# Altium footprint library IR.PcbLib: 7 footprints
Each footprint in its own frame and in the unit in brackets; x right, y up, seen from the top. Pads: shape width x height; smd on the part's side, far side on the other; paste and mask are expansions set on the pad; w line width, h text height; cw(c..) or ccw(c..) is an arc to the next point about the centre after c.
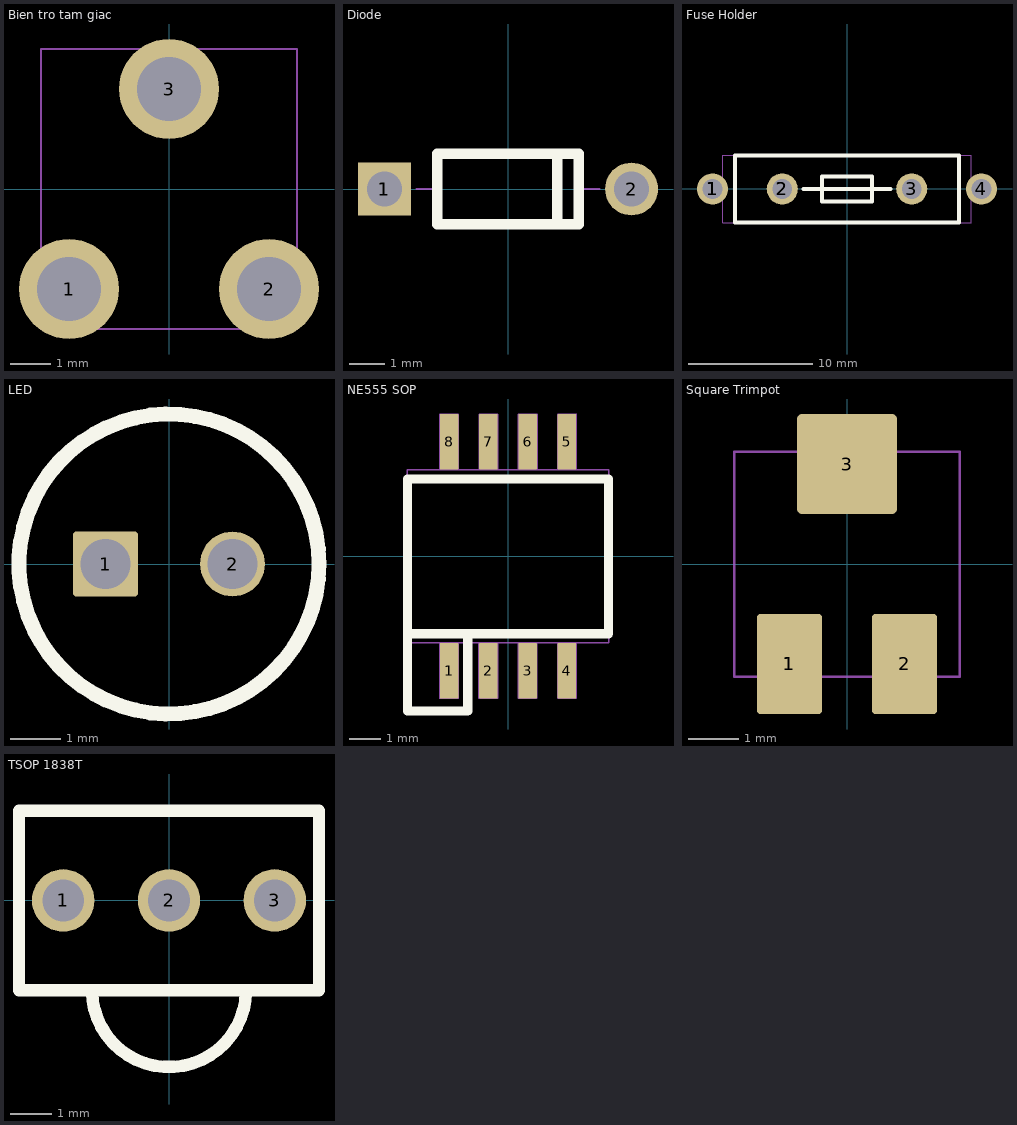
[diagram p0: the footprints below, top view; thin cyan lines are the x and y axes]

## Bien tro tam giac [mm]
height 8
pads (3):
  round 2.5 hole 1.6 mask+0.1: 1(-2.5,-2.5) 2(2.5,-2.5) 3(0,2.5)
Top Hinh chieu bang:
  lines w0.05: -3.2,-3.5 3.2,-3.5 3.2,3.5 -3.2,3.5 -3.2,-3.5

## Diode [mm] "1N4448"
height 2
pads (3):
  rect 1.5x1.5 hole 1 mask+0.1: 1(-3.5,0) 1(-3.5,0)
  round 1.5 hole 1 mask+0.1: 2(3.5,0)
Top Overlay:
  lines w0.3: 1.4,-1 1.4,1 ; -2,-1 -2,1 2,1 2,-1 -2,-1
Top Hinh chieu bang:
  lines w0.05: -2.6,0 -2,0 ; 1.4,-1 1.4,1 ; 2,0 2.6,0 ; -2,-1 2,-1 2,1 -2,1 -2,-1

## Fuse Holder [mm] "5x20mm"
height 10
pads (10):
  round 2.5 hole 1.6 mask+0.2: 1(-10.8,0) 1(-10.8,0) 1(-10.8,0) 1(-10.8,0) 1(-10.8,0) 1(-10.8,0) 2(-5.2,0) 2(-5.2,0) 3(5.2,0) 4(10.8,0)
Top Overlay:
  lines w0.3: -3.5,0 3.5,0 ; -9,-2.7 -9,-1.35 -9,-0.675 -9,0.675 -9,1.35 -9,2.7 9,2.7 9,1.35 9,-1.35 9,-2.7 -9,-2.7 ; -2,-1 2,-1 2,1 -2,1 -2,-0.675 -2,-1
Top Hinh chieu bang:
  lines w0.05: -10,-2.7 10,-2.7 10,2.7 -10,2.7 -10,-2.7

## LED [mm] "LED"
height 11.5
pads (2):
  rrect10% 1.3x1.3 hole 1 mask+0.1: 1(-1.27,0)
  round 1.3 hole 1 mask+0.1: 2(1.27,0)
Top Overlay:
  circle w0.3: c0,0 r3
Top Hinh chieu bang:
  circle w0.05: c0,0 r2.915

## NE555 SOP [mm] "PS G8"
height 2
pads (9):
  rrect10% 0.6x1.8 smd mask+0.07: 1(-1.905,-3.7) 1(-1.905,-3.7) 2(-0.635,-3.7) 3(0.635,-3.7) 4(1.905,-3.7) 5(1.905,3.7) 6(0.635,3.7) 7(-0.635,3.7) 8(-1.905,3.7)
Top Layer:
  region: -0.635,-5.097
  region: -0.635,-3.065
Top Overlay:
  lines w0.3: -1.3,-2.5 -1.3,-5 -3.25,-5 -3.25,-2.5 ; -3.25,-2.5 3.25,-2.5 3.25,2.5 -3.25,2.5 -3.25,-2.5
  text "." at -2.348,-1.705 h1.52
Top Hinh chieu bang:
  lines w0.05: -2.207,-2.802 -2.207,-4.59 -2.202,-4.595 -1.618,-4.595 -1.608,-4.585 -1.608,-2.805 ; -2.202,2.805 -2.202,4.585 ; -2.192,4.595 -1.608,4.595 ; -1.603,2.802 -1.603,4.59 ; -0.937,-4.59 -0.937,-2.802 ; -0.932,-4.595 -0.348,-4.595 ; -0.932,2.805 -0.932,4.585 ; -0.922,4.595 -0.338,4.595 ; -0.338,-4.585 -0.338,-2.805 ; -0.333,2.802 -0.333,4.59 ; 0.333,-4.59 0.333,-2.802 ; 0.338,-4.595 0.922,-4.595 ; 0.338,2.805 0.338,4.585 ; 0.348,4.595 0.932,4.595 ; 0.932,-4.585 0.932,-2.805 ; 0.937,2.802 0.937,4.59 ; 1.603,-4.59 1.603,-2.802 ; 1.608,-4.595 2.192,-4.595 ; 1.608,2.805 1.608,4.585 1.618,4.595 2.202,4.595 2.207,4.59 2.207,2.802 ; 2.202,-4.585 2.202,-2.805 ; -3.25,-2.8 -3.25,2.8 3.25,2.8 3.25,-2.8 -3.25,-2.8

## Square Trimpot [mm] "3314J-1"
height 2.55
pads (5):
  rrect10% 1.3x2 smd: 1(-1.15,-2) 1(-1.15,-2) 1(-1.15,-2) 2(1.15,-2)
  rrect10% 2x2 smd: 3(0,2)
Top Hinh chieu bang:
  lines w0.05: -2.25,-2.25 -2.25,2.25 2.25,2.25 2.25,-2.25 -2.25,-2.25

## TSOP 1838T [mm] "IR Receiver"
height 8.5
pads (3):
  round 1.5 hole 1 mask+0.1: 1(-2.54,0) 2(0,0) 3(2.54,0)
Top Overlay:
  lines w0.3: -1.85,-2.15 ccw(c0,-2.15) 1.85,-2.15 ; -3.6,-2.15 -3.6,2.15 3.6,2.15 3.6,-2.15 -3.6,-2.15
Top Hinh chieu bang:
  lines w0.05: -3.6,-2.15 3.6,-2.15 3.6,2.15 -3.6,2.15 -3.6,-2.15